# EAGLE library part TPSM84X24 (library CPSS_IC)
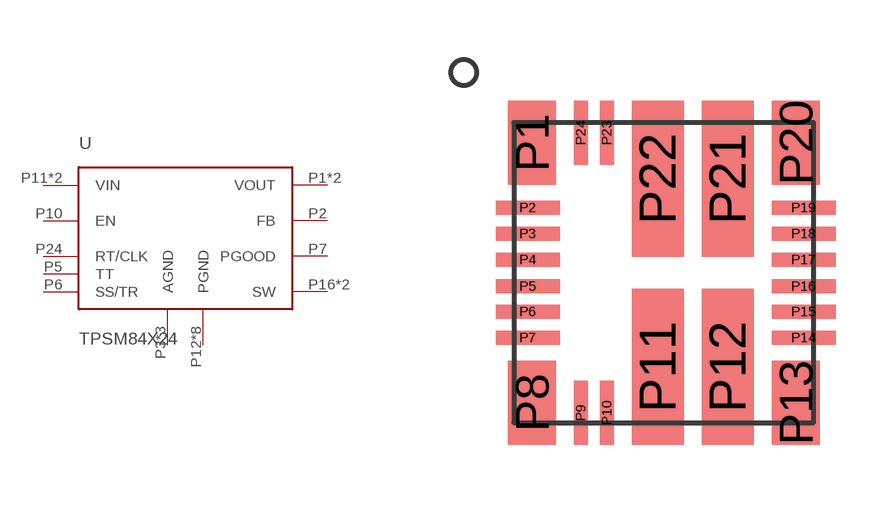
[diagram p9: symbol with the pads of QFM-5.4; footprint QFM-5.4]

Designator prefix U

## TPSM84X24  [QFM-5.4]
P1  VOUT
P2  FB
P3  AGND
P5  TT
P6  SS/TR
P7  PGOOD
P8  VOUT
P9  AGND
P10  EN
P11  VIN
P12  PGND
P13  PGND
P14  PGND
P15  PGND
P16  SW
P17  SW
P18  PGND
P19  PGND
P20  PGND
P21  PGND
P22  VIN
P23  AGND
P24  RT/CLK

## Footprint QFM-5.4 (pad centres in mm)
smd 1.2 x 2.1: P1 -3.3,3.25; P8 -3.3,-3.25; P13 3.3,-3.25; P20 3.3,3.25
smd 1.6 x 0.35: P2 -3.4,1.625; P3 -3.4,0.975; P4 -3.4,0.325; P5 -3.4,-0.34; P6 -3.4,-0.975; P7 -3.4,-1.625; P14 3.5,-1.625; P15 3.5,-0.975; P16 3.5,-0.34; P17 3.5,0.325; P18 3.5,0.975; P19 3.5,1.625
smd 0.35 x 1.6: P9 -2.075,-3.5; P10 -1.425,-3.5; P23 -1.425,3.5; P24 -2.075,3.5
smd 1.3 x 3.9: P11 -0.15,-2.35; P12 1.6,-2.35; P21 1.6,2.35; P22 -0.15,2.35